# Altium schematic symbol library CAP 6800pF 50V.Schlib: 1 symbol
Pins are listed as number, name and electrical type; pins without a type are passive.

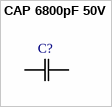
[diagram p0: symbol CAP 6800pF 50V]

## CAP 6800pF 50V
designator C?
CAP CER 6800PF 50V X7R 0603/0805
pins: 1 C1, 2 C2